# EAGLE library part 1462051-1 (library Relay)
RELAY RF SPDT 2A 3V Manufacturer's datasheet <https://www.te.com/commerce/DocumentDelivery/DDEController?Action=srchrtrv&DocNm=108-98000&DocType=SS&DocLang=EN>
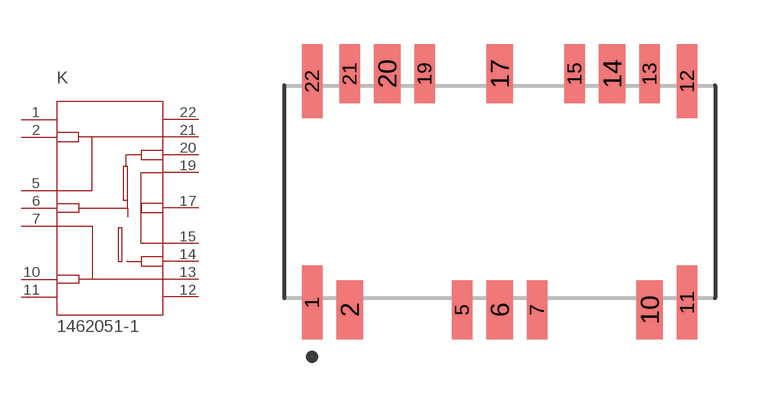
[diagram p1: symbol with the pads of 1462051-1; footprint 1462051-1]

Designator prefix K

## 1462051-1 (CREATED_BY: PCBLayout.com; DIGIKEY_PARTNO: PB1102TR-ND; MANUFACTURER: TE Connectivity Potter & Brumfield Relays; MPN: 1462051-1)  [1462051-1]
1  1  pas
2  2  pas
5  5  pas
6  6  pas
7  7  pas
10  10  pas
11  11  pas
12  12  pas
13  13  pas
14  14  pas
15  15  pas
17  17  pas
19  19  pas
20  20  pas
21  21  pas
22  22  pas

## Footprint 1462051-1 (pad centres in mm)
smd 0.7 x 2.5: 1 -6.35,-3.75; 11 6.35,-3.75; 12 6.35,3.75; 22 -6.35,3.75
smd 0.9 x 2: 2 -5.08,-4; 6 0,-4; 10 5.08,-4; 14 3.81,4; 17 0,4; 20 -3.81,4
smd 0.7 x 2: 5 -1.27,-4; 7 1.27,-4; 13 5.08,4; 15 2.54,4; 19 -2.54,4; 21 -5.08,4